# EAGLE library part CC1101RGPR (library cc1101RGPR)
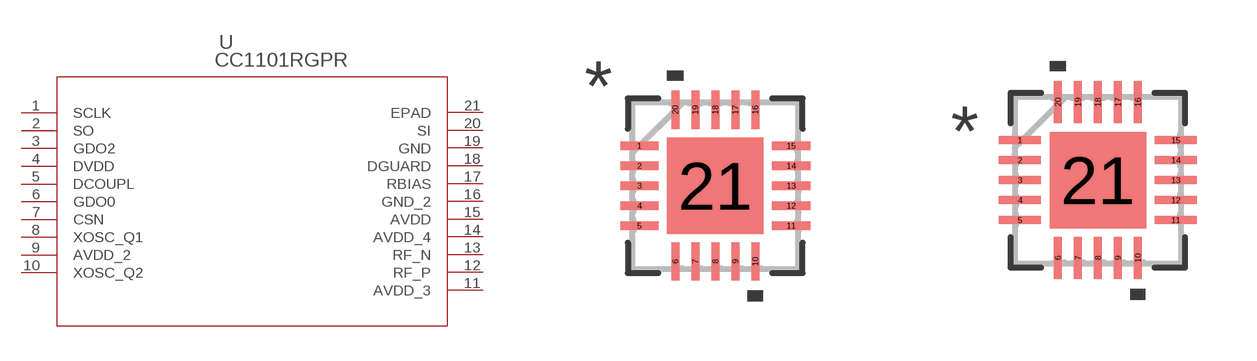
[diagram p0: symbol with the pads of RGP20_2P4X2P4; footprints RGP20_2P4X2P4, RGP20_2P4X2P4-M]

Designator prefix U

## CC1101RGPR (MANUFACTURER_PART_NUMBER: CC1101RGPR; VENDOR: Vendor)  [RGP20_2P4X2P4]
1  SCLK  pas
2  SO  out
3  GDO2  out
4  DVDD  pwr
5  DCOUPL  pwr
6  GDO0
7  CSN  in
8  XOSC_Q1
9  AVDD_2  pwr
10  XOSC_Q2
11  AVDD_3  pwr
12  RF_P
13  RF_N
14  AVDD_4  pwr
15  AVDD  pwr
16  GND_2  pwr
17  RBIAS
18  DGUARD  pwr
19  GND  pwr
20  SI  in
21  EPAD  pwr

## CC1101RGPRRGP20_2P4X2P4-M (MANUFACTURER_PART_NUMBER: CC1101RGPR; VENDOR: Vendor)  [RGP20_2P4X2P4-M]
Pads as for RGP20_2P4X2P4

## CC1101RGPRRGP20_2P4X2P4-L (MANUFACTURER_PART_NUMBER: CC1101RGPR; VENDOR: Vendor)  [RGP20_2P4X2P4-L]
Pads as for RGP20_2P4X2P4

## Footprint RGP20_2P4X2P4 (pad centres in mm)
smd 0.953 x 0.203: 1 -1.899,1; 2 -1.899,0.5; 3 -1.899,0; 4 -1.899,-0.5; 5 -1.899,-1; 11 1.899,-1; 12 1.899,-0.5; 13 1.899,0; 14 1.899,0.5; 15 1.899,1
smd 0.203 x 0.953: 6 -1,-1.899; 7 -0.5,-1.899; 8 0,-1.899; 9 0.5,-1.899; 10 1,-1.899; 16 1,1.899; 17 0.5,1.899; 18 0,1.899; 19 -0.5,1.899; 20 -1,1.899
smd 2.413 x 2.413: 21 0,0

## Footprint RGP20_2P4X2P4-M (pad centres in mm)
smd 1.054 x 0.203: 1 -1.949,1; 2 -1.949,0.5; 3 -1.949,0; 4 -1.949,-0.5; 5 -1.949,-1; 11 1.949,-1; 12 1.949,-0.5; 13 1.949,0; 14 1.949,0.5; 15 1.949,1
smd 0.203 x 1.054: 6 -1,-1.949; 7 -0.5,-1.949; 8 0,-1.949; 9 0.5,-1.949; 10 1,-1.949; 16 1,1.949; 17 0.5,1.949; 18 0,1.949; 19 -0.5,1.949; 20 -1,1.949
smd 2.413 x 2.413: 21 0,0

## Footprint RGP20_2P4X2P4-L (pad centres in mm)
smd 0.851 x 0.203: 1 -1.848,1; 2 -1.848,0.5; 3 -1.848,0; 4 -1.848,-0.5; 5 -1.848,-1; 11 1.848,-1; 12 1.848,-0.5; 13 1.848,0; 14 1.848,0.5; 15 1.848,1
smd 0.203 x 0.851: 6 -1,-1.848; 7 -0.5,-1.848; 8 0,-1.848; 9 0.5,-1.848; 10 1,-1.848; 16 1,1.848; 17 0.5,1.848; 18 0,1.848; 19 -0.5,1.848; 20 -1,1.848
smd 2.413 x 2.413: 21 0,0